# Altium footprint library cap_rad3.pcblib: 1 footprints
Each footprint in its own frame and in the unit in brackets; x right, y up, seen from the top. Pads: shape width x height; smd on the part's side, far side on the other; paste and mask are expansions set on the pad; w line width, h text height; cw(c..) or ccw(c..) is an arc to the next point about the centre after c.
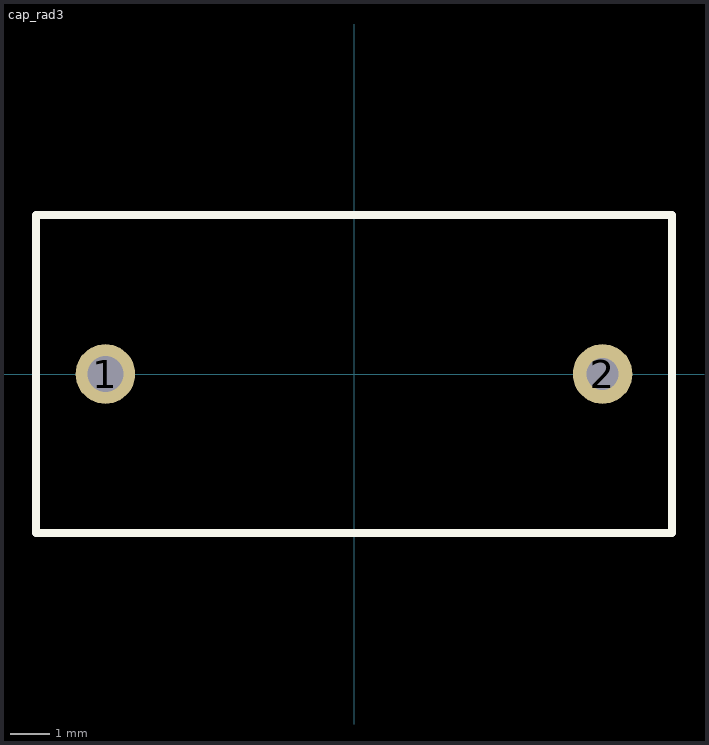
[diagram p0: the footprint, top view; thin cyan lines are the x and y axes]

## cap_rad3 [mm]
pads (2):
  round 1.5 hole 0.9: 1(-6.25,0)
  round 1.5 hole 0.8: 2(6.25,0)
Top Overlay:
  lines w0.203: -8,-4 -8,4 8,4 8,-4 -8,-4